# Altium schematic symbol library GOSTMicrocontroller.SchLib: 1 symbol
Pins are listed as number, name and electrical type; pins without a type are passive.

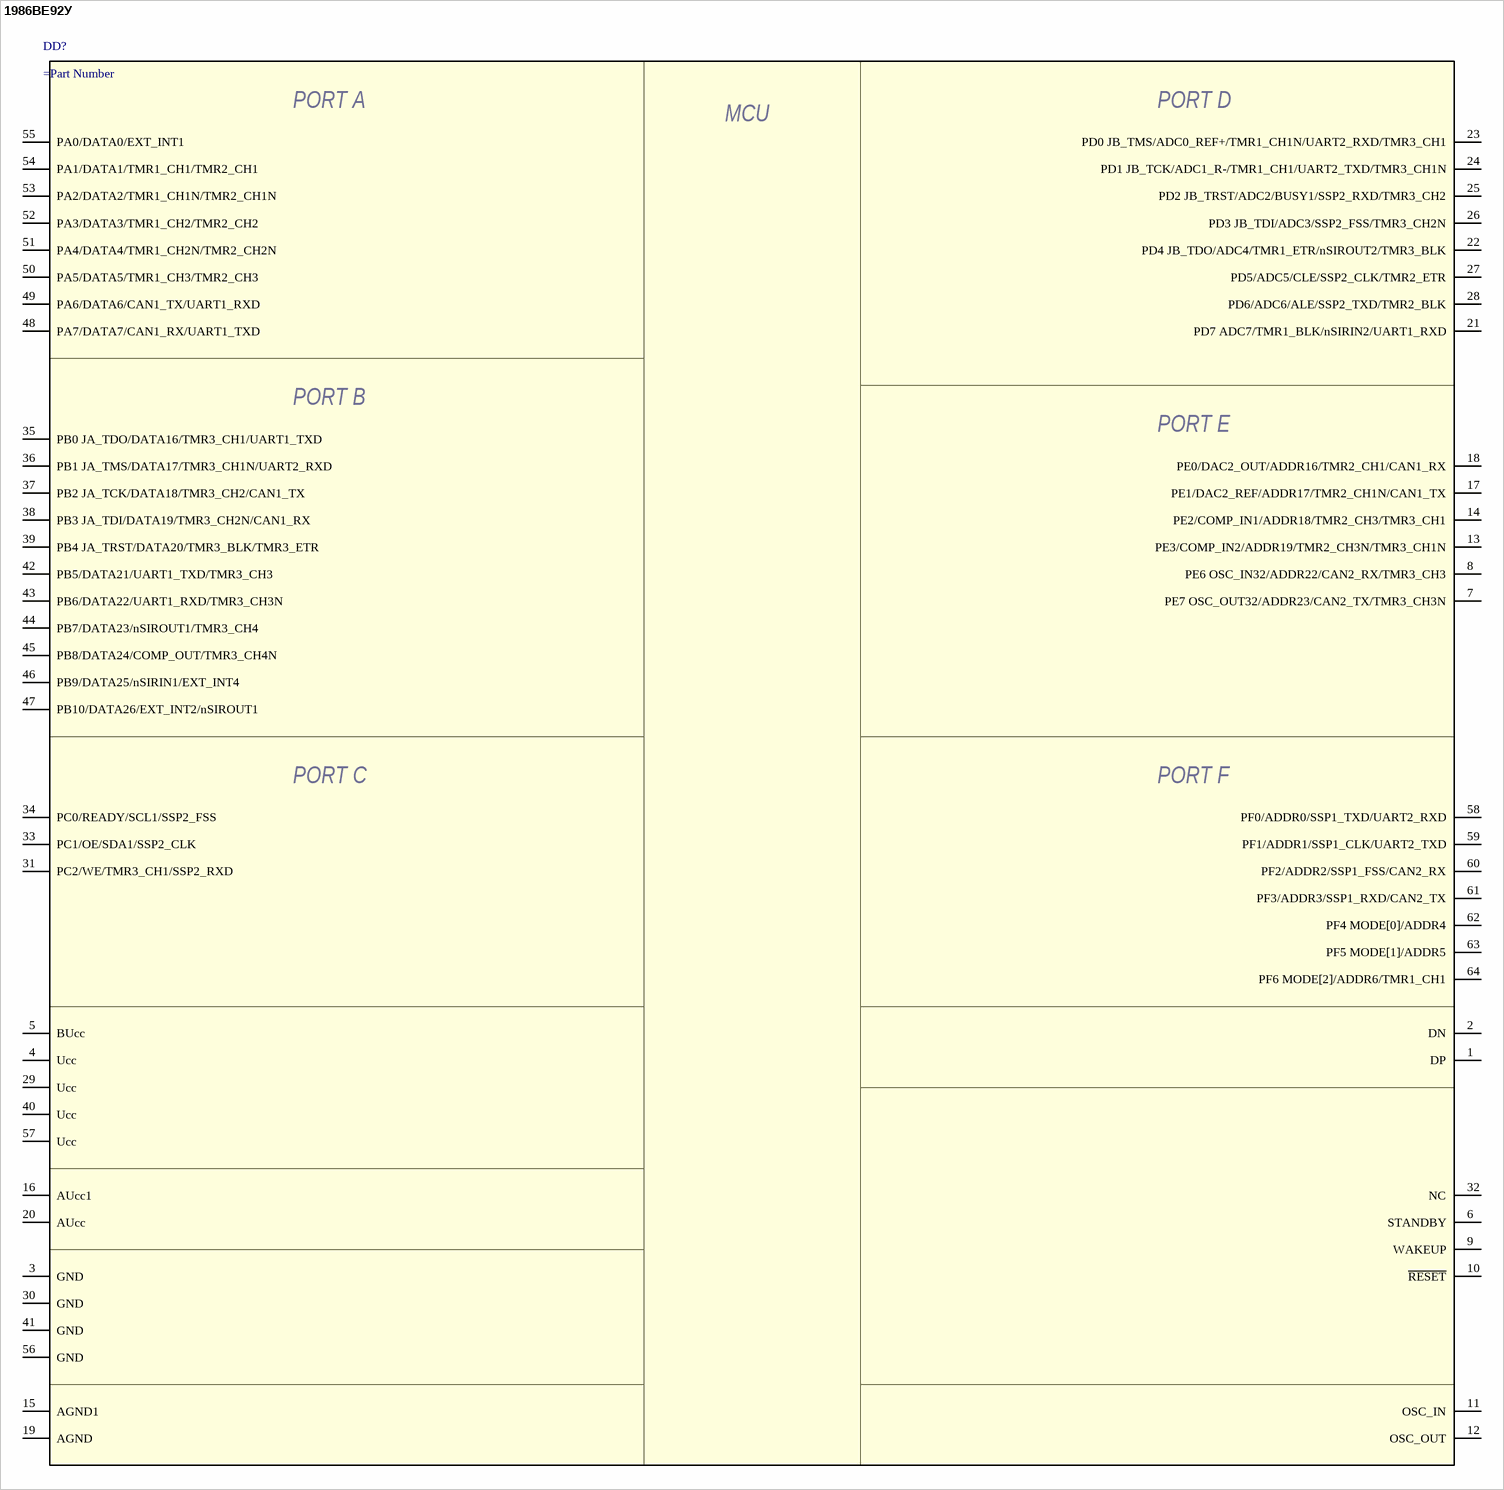
[diagram p0: symbol 1986ВЕ92У]

## 1986ВЕ92У
designator DD?
Микросхема 32-разрядного однокристального микро-ЭВМ с памятью Flash-типа
pins: 1 DP, 2 DN, 3 GND, 4 Ucc, 5 BUcc, 6 STANDBY, 7 PE7 OSC_OUT32/ADDR23/CAN2_TX/TMR3_CH3N, 8 PE6 OSC_IN32/ADDR22/CAN2_RX/TMR3_CH3, 9 WAKEUP, 10 ~{RESET}, 11 OSC_IN, 12 OSC_OUT, 13 PE3/COMP_IN2/ADDR19/TMR2_CH3N/TMR3_CH1N, 14 PE2/COMP_IN1/ADDR18/TMR2_CH3/TMR3_CH1, 15 AGND1, 16 AUcc1, 17 PE1/DAC2_REF/ADDR17/TMR2_CH1N/CAN1_TX, 18 PE0/DAC2_OUT/ADDR16/TMR2_CH1/CAN1_RX, 19 AGND, 20 AUcc, 21 PD7 ADC7/TMR1_BLK/nSIRIN2/UART1_RXD, 22 PD4 JB_TDO/ADC4/TMR1_ETR/nSIROUT2/TMR3_BLK, 23 PD0 JB_TMS/ADC0_REF+/TMR1_CH1N/UART2_RXD/TMR3_CH1, 24 PD1 JB_TCK/ADC1_R-/TMR1_CH1/UART2_TXD/TMR3_CH1N, 25 PD2 JB_TRST/ADC2/BUSY1/SSP2_RXD/TMR3_CH2, 26 PD3 JB_TDI/ADC3/SSP2_FSS/TMR3_CH2N, 27 PD5/ADC5/CLE/SSP2_CLK/TMR2_ETR, 28 PD6/ADC6/ALE/SSP2_TXD/TMR2_BLK, 29 Ucc, 30 GND, 31 PC2/WE/TMR3_CH1/SSP2_RXD, 32 NC, 33 PC1/OE/SDA1/SSP2_CLK, 34 PC0/READY/SCL1/SSP2_FSS, 35 PB0 JA_TDO/DATA16/TMR3_CH1/UART1_TXD, 36 PB1 JA_TMS/DATA17/TMR3_CH1N/UART2_RXD, 37 PB2 JA_TCK/DATA18/TMR3_CH2/CAN1_TX, 38 PB3 JA_TDI/DATA19/TMR3_CH2N/CAN1_RX, 39 PB4 JA_TRST/DATA20/TMR3_BLK/TMR3_ETR, 40 Ucc, 41 GND, 42 PB5/DATA21/UART1_TXD/TMR3_CH3, 43 PB6/DATA22/UART1_RXD/TMR3_CH3N, 44 PB7/DATA23/nSIROUT1/TMR3_CH4, 45 PB8/DATA24/COMP_OUT/TMR3_CH4N, 46 PB9/DATA25/nSIRIN1/EXT_INT4, 47 PB10/DATA26/EXT_INT2/nSIROUT1, 48 PA7/DATA7/CAN1_RX/UART1_TXD, 49 PA6/DATA6/CAN1_TX/UART1_RXD, 50 PA5/DATA5/TMR1_CH3/TMR2_CH3, 51 PA4/DATA4/TMR1_CH2N/TMR2_CH2N, 52 PA3/DATA3/TMR1_CH2/TMR2_CH2, 53 PA2/DATA2/TMR1_CH1N/TMR2_CH1N, 54 PA1/DATA1/TMR1_CH1/TMR2_CH1, 55 PA0/DATA0/EXT_INT1, 56 GND, 57 Ucc, 58 PF0/ADDR0/SSP1_TXD/UART2_RXD, 59 PF1/ADDR1/SSP1_CLK/UART2_TXD, 60 PF2/ADDR2/SSP1_FSS/CAN2_RX, 61 PF3/ADDR3/SSP1_RXD/CAN2_TX, 62 PF4 MODE[0]/ADDR4, 63 PF5 MODE[1]/ADDR5, 64 PF6 MODE[2]/ADDR6/TMR1_CH1
text: PORT A; PORT D; MСU; PORT B; PORT E; PORT C; PORT F